# Altium schematic symbol library BJTPNP.Schlib: 2 symbols
Pins are listed as number, name and electrical type; pins without a type are passive.

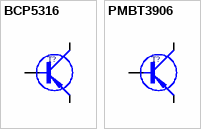
[diagram p0: symbols BCP5316 to PMBT3906]

## BCP5316
designator T?
pins: 1 B, 2 C (oc), 3 E (oe)

## PMBT3906
designator T?
pins: 1 B, 2 E (oe), 3 C (oc)